# Altium schematic symbol library DC-DC Converter GOST.SchLib: 18 symbols
Pins are listed as number, name and electrical type; pins without a type are passive.

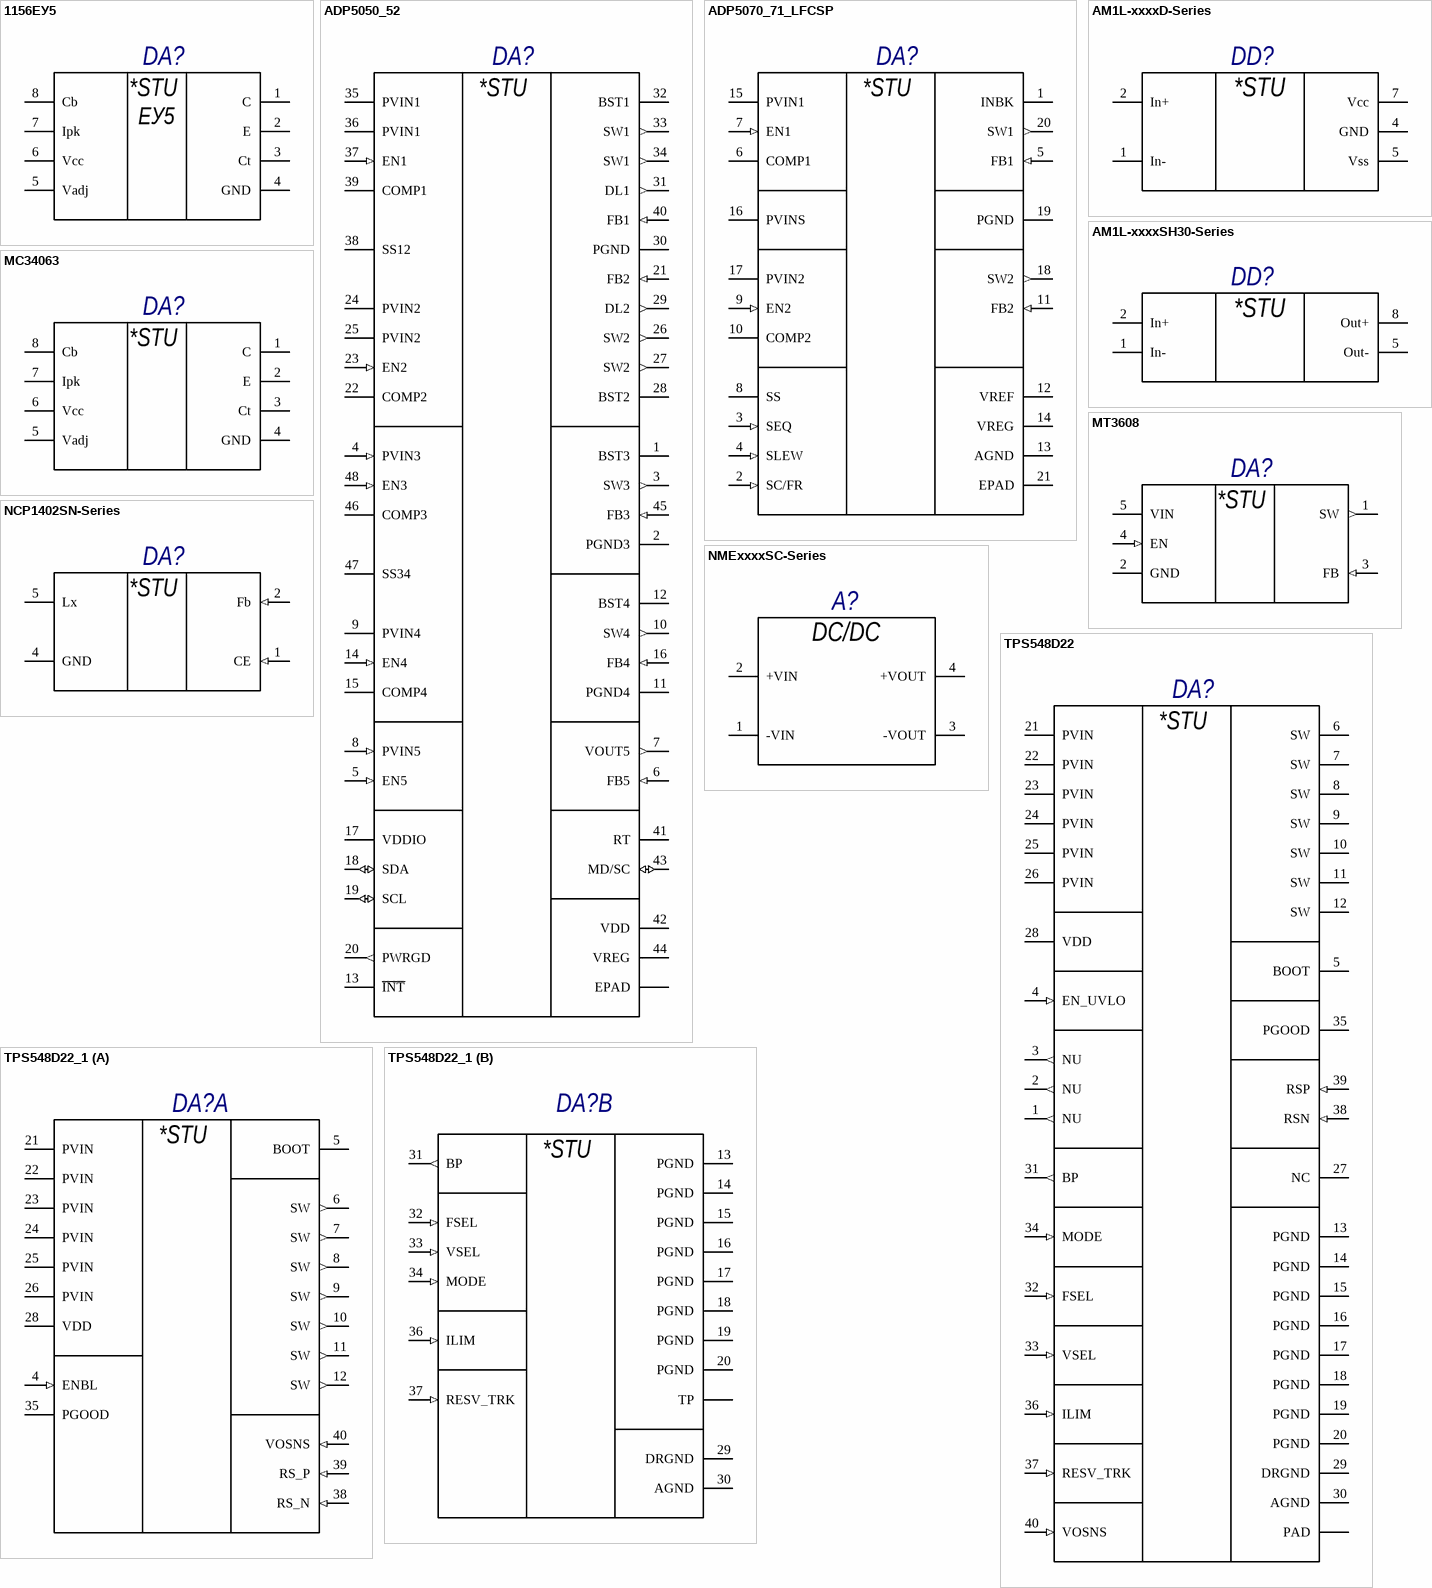
[diagram p0: symbols 1156ЕУ5 to TPS548D22_1]

## 1156ЕУ5
designator DA?
Type: Микросхема; Published: 23.07.2014; Publisher: Andrew Danich
pins: 1 С "Коллектор Сил.Тр-ра", 2 E "Эммитер Сил.Тр-ра", 3 Ct "Частотозадающая ёмкость", 4 GND (power) "Общий", 5 Vadj "Вход компаратора", 6 Vcc (power) "Питание +", 7 Ipk "Вход датчика тока", 8 Cb "K-р упр. Транзистора"
text: *STU; ЕУ5

## ADP5050_52
designator DA?
Type: Микросхема; Published: 20.08.2015; Publisher: Andrew Danich
pins: 1 BST3 (power), 2 PGND3 (power), 3 SW3 (out), 4 PVIN3 (in), 5 EN5 (in), 6 FB5 (in), 7 VOUT5 (out), 8 PVIN5 (in), 9 PVIN4 (power), 10 SW4 (out), 11 PGND4 (power), 12 BST4 (power), 13 ~{INT} (oc), 14 EN4 (in), 15 COMP4, 16 FB4 (in), 17 VDDIO (power), 18 SDA (io), 19 SCL (io), 20 PWRGD (out), 21 FB2 (in), 22 COMP2, 23 EN2 (in), 24 PVIN2 (power), 25 PVIN2 (power), 26 SW2 (out), 27 SW2 (out), 28 BST2 (power), 29 DL2 (out), 30 PGND (power), 31 DL1 (out), 32 BST1 (power), 33 SW1 (out), 34 SW1 (out), 35 PVIN1 (power), 36 PVIN1 (power), 37 EN1 (in), 38 SS12, 39 COMP1, 40 FB1 (in), 41 RT, 42 VDD (power), 43 MD/SC (io), 44 VREG (power), 45 FB3 (in), 46 COMP3, 47 SS34, 48 EN3 (in), 49 EPAD (power) "Analog Ground"
text: *STU

## ADP5070_71_LFCSP
designator DA?
Type: Микросхема; Published: 20.08.2015; Publisher: Andrew Danich
pins: 1 INBK (power), 2 SC/FR (in), 3 SEQ (in), 4 SLEW (in), 5 FB1 (in), 6 COMP1, 7 EN1 (in), 8 SS, 9 EN2 (in), 10 COMP2, 11 FB2 (in), 12 VREF (power), 13 AGND (power), 14 VREG (power), 15 PVIN1 (power), 16 PVINS (power), 17 PVIN2 (power), 18 SW2 (out), 19 PGND (power), 20 SW1 (out), 21 EPAD (power) "AGND"
text: *STU

## AM1L-xxxxD-Series
designator DD?
Published: 29.07.2015; Publisher: Andrew Danich; Type: Модуль
pins: 1 In- (power), 2 In+ (power), 4 GND (power), 5 Vss (power), 7 Vcc (power)
text: *STU

## AM1L-xxxxSH30-Series
designator DD?
Published: 29.07.2015; Publisher: Andrew Danich; Type: Модуль
pins: 1 In- (power), 2 In+ (power), 5 Out- (power), 8 Out+ (power)
text: *STU

## MC34063
designator DA?
Type: Микросхема; Published: 23.07.2014; Publisher: Andrew Danich
pins: 1 С "Коллектор Сил.Тр-ра", 2 E "Эммитер Сил.Тр-ра", 3 Ct "Частотозадающая ёмкость", 4 GND (power) "Общий", 5 Vadj "Вход компаратора", 6 Vcc (power) "Питание +", 7 Ipk "Вход датчика тока", 8 Cb "K-р упр. Транзистора"
text: *STU

## MT3608
designator DA?
Type: Микросхема; Published: 17.02.2017; Publisher: Andrew Danich
pins: 1 SW (out), 2 GND (power), 3 FB (in), 4 EN (in), 5 VIN (power)
text: *STU

## NCP1402SN-Series
designator DA?
Type: Микросхема; Published: 20.08.2015; Publisher: Andrew Danich
pins: 1 CE (in), 2 Fb (in), 4 GND (power), 5 Lx (power)
text: *STU

## NMExxxxSC-Series
designator A?
Published: 09.01.2017; Publisher: Viktor Klishin; Type: Модуль
pins: 1 -VIN (power), 2 +VIN (power), 3 -VOUT (power), 4 +VOUT (power)
text: DC/DC

## TPS548D22
designator DA?
Type: Микросхема; Published: 12.12.2016; Publisher: Andrew Danich
pins: 1 NU (out) "Not used pins", 2 NU (out) "Not used pins", 3 NU (out) "Not used pins", 4 EN_UVLO (in) "Enable pin that can turn on the DC/DC switching converter.", 5 BOOT (power) "Supply rail for high-side gate driver (boot terminal).", 6 SW "Output switching terminal of power converter.", 7 SW "Output switching terminal of power converter.", 8 SW "Output switching terminal of power converter.", 9 SW "Output switching terminal of power converter.", 10 SW "Output switching terminal of power converter.", 11 SW "Output switching terminal of power converter.", 12 SW "Output switching terminal of power converter.", 13 PGND (power) "Power ground of internal FETs.", 14 PGND (power) "Power ground of internal FETs.", 15 PGND (power) "Power ground of internal FETs.", 16 PGND (power) "Power ground of internal FETs.", 17 PGND (power) "Power ground of internal FETs.", 18 PGND (power) "Power ground of internal FETs.", 19 PGND (power) "Power ground of internal FETs.", 20 PGND (power) "Power ground of internal FETs.", 21 PVIN (power) "Power supply input for integrated power MOSFET pair.", 22 PVIN (power) "Power supply input for integrated power MOSFET pair.", 23 PVIN (power) "Power supply input for integrated power MOSFET pair.", 24 PVIN (power) "Power supply input for integrated power MOSFET pair.", 25 PVIN (power) "Power supply input for integrated power MOSFET pair.", 26 PVIN (power) "Power supply input for integrated power MOSFET pair.", 27 NC "No connect", 28 VDD (power) "Controller power supply input.", 29 DRGND (power) "Internal gate driver return.", 30 AGND (power) "Ground pin for internal analog circuits.", 31 BP (out) "LDO output", 32 FSEL (in) "Program switching frequency, internal ramp amplitude and SKIP or FCCM mode.", 33 VSEL (in) "Program the initial startup and or reference voltage without feedback resistor dividers (from 0.6 V to 1.2 V in 50 mV increments).", 34 MODE (in) "Mode selection pin. Select the control mode (DCAP3 or DCAP), internal VREF operation, and soft-start timing selection.", 35 PGOOD (oc) "Open drain power good status signal.", 36 ILIM (in) "Program overcurrent limit by connecting a resistor to ground.", 37 RESV_TRK (in) "Do not connect.", 38 RSN (in) "Inverting input of the differential remote sense amplifier.", 39 RSP (in) "Non-inverting input of the differential remote sense amplifier.", 40 VOSNS (in) "Output voltage monitor input pin.", PAD (power)
text: *STU

## TPS548D22_1
designator DA?
Type: Микросхема; Published: 12.12.2016; Publisher: Andrew Danich
part A pins: 4 ENBL (in) "Enable pin that can turn on the DC/DC switching converter.", 5 BOOT (power) "Supply rail for high-side gate driver (boot terminal).", 6 SW (out) "Output switching terminal of power converter.", 7 SW (out) "Output switching terminal of power converter.", 8 SW (out) "Output switching terminal of power converter.", 9 SW (out) "Output switching terminal of power converter.", 10 SW (out) "Output switching terminal of power converter.", 11 SW (out) "Output switching terminal of power converter.", 12 SW (out) "Output switching terminal of power converter.", 21 PVIN (power) "Power supply input for integrated power MOSFET pair.", 22 PVIN (power) "Power supply input for integrated power MOSFET pair.", 23 PVIN (power) "Power supply input for integrated power MOSFET pair.", 24 PVIN (power) "Power supply input for integrated power MOSFET pair.", 25 PVIN (power) "Power supply input for integrated power MOSFET pair.", 26 PVIN (power) "Power supply input for integrated power MOSFET pair.", 28 VDD (power) "Controller power supply input.", 35 PGOOD (oc) "Open drain power good status signal.", 38 RS_N (in) "Inverting input of the differential remote sense amplifier.", 39 RS_P (in) "Non-inverting input of the differential remote sense amplifier.", 40 VOSNS (in) "Output voltage monitor input pin."
part B pins: 13 PGND (power) "Power ground of internal FETs.", 14 PGND (power) "Power ground of internal FETs.", 15 PGND (power) "Power ground of internal FETs.", 16 PGND (power) "Power ground of internal FETs.", 17 PGND (power) "Power ground of internal FETs.", 18 PGND (power) "Power ground of internal FETs.", 19 PGND (power) "Power ground of internal FETs.", 20 PGND (power) "Power ground of internal FETs.", 29 DRGND (power) "Internal gate driver return.", 30 AGND (power) "Ground pin for internal analog circuits.", 31 BP (out) "LDO output", 32 FSEL (in) "Program switching frequency, internal ramp amplitude and SKIP or FCCM mode.", 33 VSEL (in) "Program the initial startup and or reference voltage without feedback resistor dividers (from 0.6 V to 1.2 V in 50 mV increments).", 34 MODE (in) "Mode selection pin. Select the control mode (DCAP3 or DCAP), internal VREF operation, and soft-start timing selection.", 36 ILIM (in) "Program overcurrent limit by connecting a resistor to ground.", 37 RESV_TRK (in) "Do not connect.", 41 TP (power)
part A text: *STU
part B text: *STU

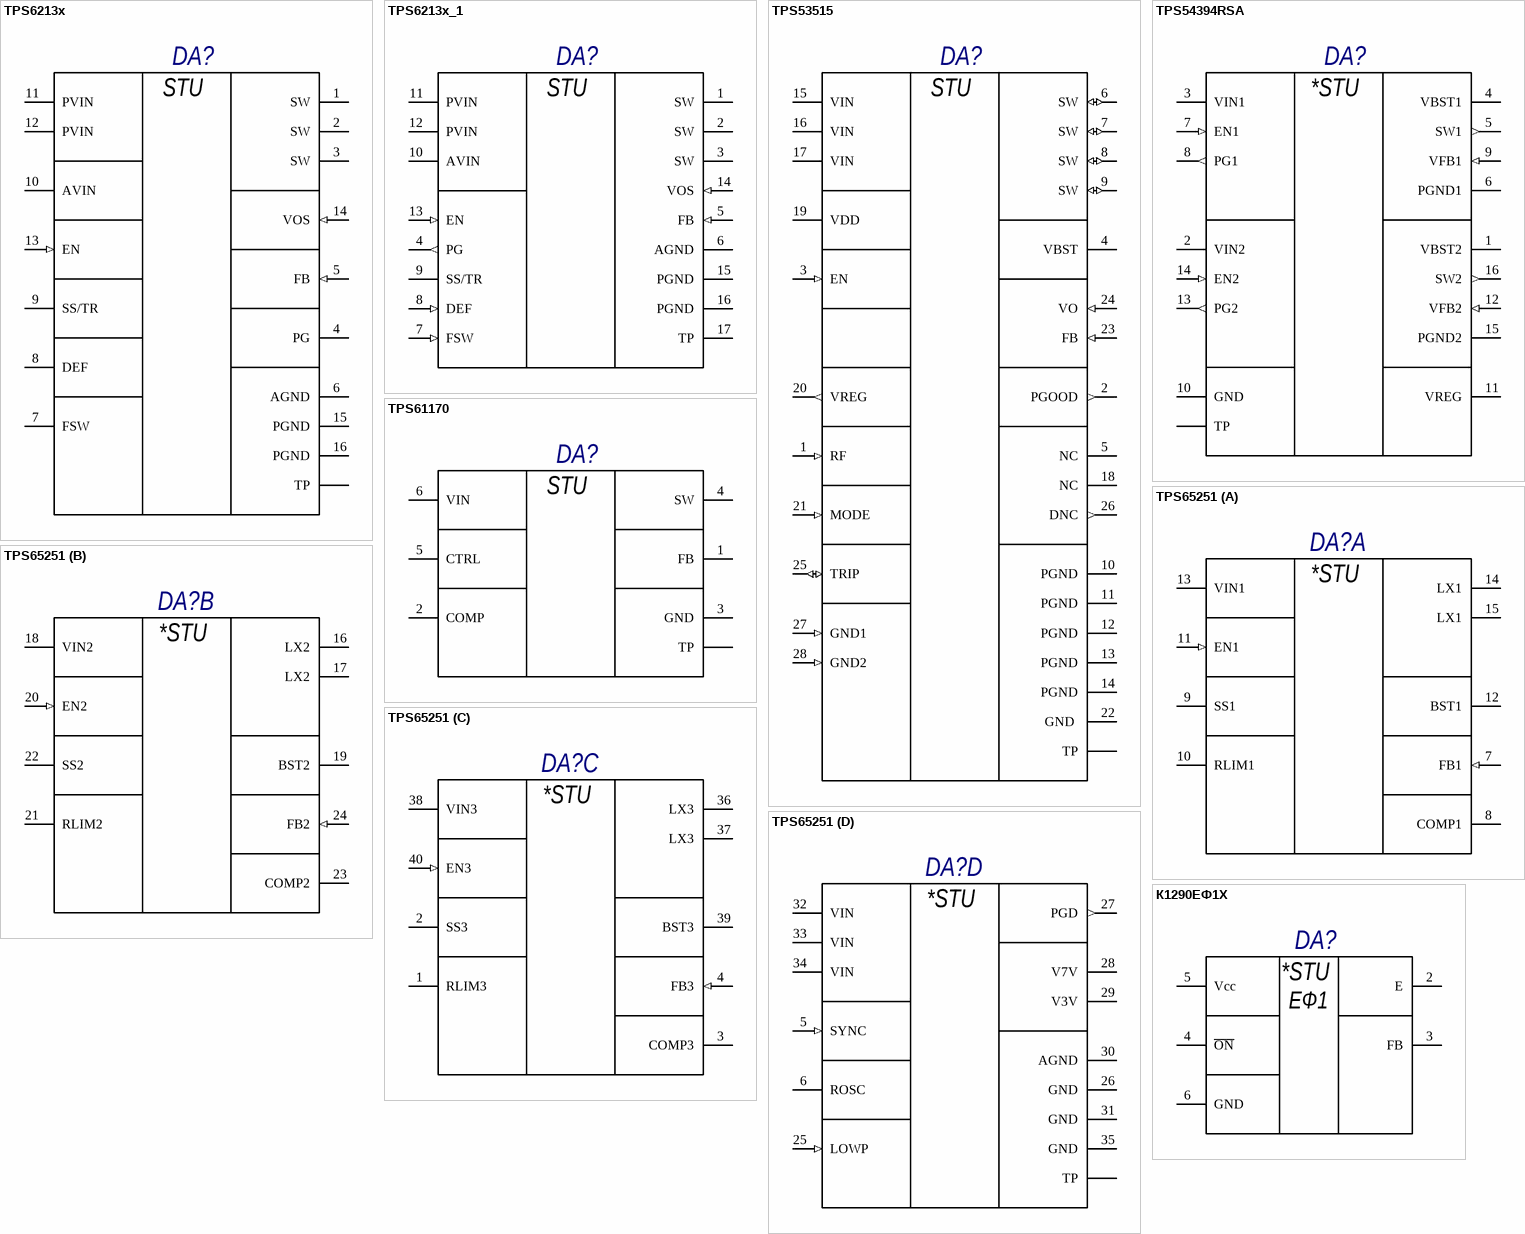
[diagram p1: symbols TPS6213x to К1290ЕФ1Х]

## TPS6213x
designator DA?
Type: Микросхема; Published: 23.08.2015; Publisher: Andrew Danich
pins: 1 SW, 2 SW, 3 SW, 4 PG (oc), 5 FB (in), 6 AGND (power), 7 FSW, 8 DEF, 9 SS/TR, 10 AVIN (power), 11 PVIN (power), 12 PVIN (power), 13 EN (in), 14 VOS (in), 15 PGND (power), 16 PGND (power), TP
text: STU

## TPS6213x_1
designator DA?
Type: Микросхема; Published: 23.08.2015; Publisher: Andrew Danich
pins: 1 SW, 2 SW, 3 SW, 4 PG (out), 5 FB (in), 6 AGND (power), 7 FSW (in), 8 DEF (in), 9 SS/TR, 10 AVIN (power), 11 PVIN (power), 12 PVIN (power), 13 EN (in), 14 VOS (in), 15 PGND (power), 16 PGND (power), 17 TP (power)
text: STU

## TPS53515
designator DA?
Type: Микросхема; Published: 23.08.2015; Publisher: Andrew Danich
pins: 1 RF (in), 2 PGOOD (out), 3 EN (in), 4 VBST (power), 5 NC, 6 SW (io), 7 SW (io), 8 SW (io), 9 SW (io), 10 PGND (power), 11 PGND (power), 12 PGND (power), 13 PGND (power), 14 PGND (power), 15 VIN (power), 16 VIN (power), 17 VIN (power), 18 NC, 19 VDD (power), 20 VREG (out), 21 MODE (in), 22 GND  (power), 23 FB (in), 24 VO (in), 25 TRIP (io), 26 DNC (out) "Do not connect", 27 GND1 (in), 28 GND2 (in), 29 TP
text: STU

## TPS54394RSA
designator DA?
Type: Микросхема; Published: 23.08.2015; Publisher: Andrew Danich
pins: 1 VBST2, 2 VIN2 (power), 3 VIN1 (power), 4 VBST1, 5 SW1 (out), 6 PGND1 (power), 7 EN1 (in), 8 PG1 (out), 9 VFB1 (in), 10 GND (power), 11 VREG (power), 12 VFB2 (in), 13 PG2 (out), 14 EN2 (in), 15 PGND2 (power), 16 SW2 (out), 17 TP "GND"
text: *STU

## TPS61170
designator DA?
Type: Микросхема; Published: 23.08.2015; Publisher: Andrew Danich
pins: 1 FB, 2 COMP, 3 GND (power), 4 SW, 5 CTRL, 6 VIN, TP "Thermal Pad"
text: STU

## TPS65251
designator DA?
Type: Микросхема; Published: 23.08.2015; Publisher: Andrew Danich
part A pins: 7 FB1 (in), 8 COMP1, 9 SS1, 10 RLIM1, 11 EN1 (in), 12 BST1, 13 VIN1 (power), 14 LX1, 15 LX1
part B pins: 16 LX2, 17 LX2, 18 VIN2 (power), 19 BST2, 20 EN2 (in), 21 RLIM2, 22 SS2, 23 COMP2, 24 FB2 (in)
part C pins: 1 RLIM3, 2 SS3, 3 COMP3, 4 FB3 (in), 36 LX3, 37 LX3, 38 VIN3 (power), 39 BST3, 40 EN3 (in)
part D pins: 5 SYNC (in), 6 ROSC, 25 LOWP (in), 26 GND (power), 27 PGD (out), 28 V7V (power), 29 V3V (power), 30 AGND (power), 31 GND (power), 32 VIN (power), 33 VIN (power), 34 VIN (power), 35 GND (power), TP (power) "GND"
part A text: *STU
part B text: *STU
part C text: *STU
part D text: *STU

## К1290ЕФ1Х
designator DA?
DC-DC, Iout<3A, Uin<40В, 52кГц, Uout=1.2~37В; Type: Микросхема; Published: 11.08.2010; Publisher: Andrew Danich
pins: 2 E (power) "Питание", 3 FB "Выход", 4 ~{ON} "Задание частоты", 5 Vcc "Коррекция", 6 GND "Токовая обратная связь"
text: *STU; ЕФ1